# Altium schematic symbol library DRV8818.SchLib: 1 symbol
Pins are listed as number, name and electrical type; pins without a type are passive.

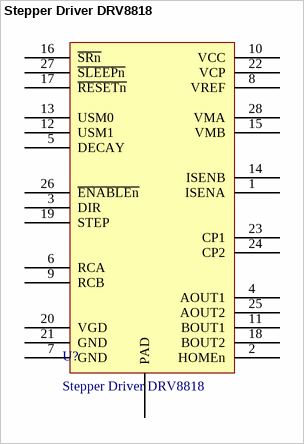
[diagram p0: symbol Stepper Driver DRV8818]

## Stepper Driver DRV8818
designator U?
Stepper Driver
footprint DRV8818_TSSOP_28 (Stepper Motor Driver)
pins: 1 ISENA, 2 HOMEn, 3 DIR, 4 AOUT1, 5 DECAY, 6 RCA, 7 GND, 8 VREF, 9 RCB, 10 VCC, 11 BOUT1, 12 USM1, 13 USM0, 14 ISENB, 15 VMB, 16 ~{SRn}, 17 ~{RESETn}, 18 BOUT2, 19 STEP, 20 VGD, 21 GND, 22 VCP, 23 CP1, 24 CP2, 25 AOUT2, 26 ~{ENABLEn}, 27 ~{SLEEPn}, 28 VMA, PAD